# EAGLE library part LSM303D-LONG (library Triggy)
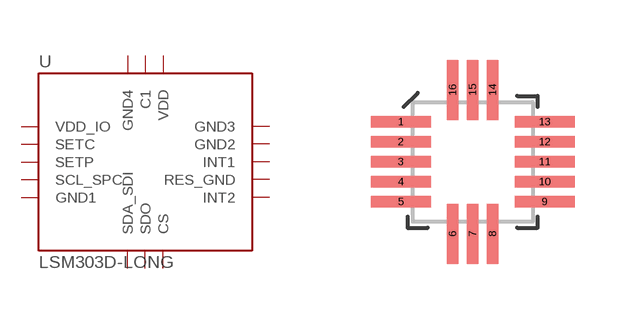
[diagram p1: symbol with the pads of LGA-16-LONG; footprint LGA-16-LONG]

Designator prefix -

## LSM303D-LONG  [LGA-16-LONG]
1  VDD_IO
2  SETC
3  SETP
4  SCL_SPC
5  GND1
6  SDA_SDI
7  SDO
8  CS
9  INT2
10  RES_GND
11  INT1
12  GND2
13  GND3
14  VDD
15  C1
16  GND4

## Footprint LGA-16-LONG (pad centres in mm)
smd 1.5 x 0.28: 1 -1.7,1.2; 2 -1.7,0.7; 3 -1.7,0.2; 4 -1.7,-0.3; 5 -1.7,-0.8; 9 1.9,-0.8; 10 1.9,-0.3; 11 1.9,0.2; 12 1.9,0.7; 13 1.9,1.2
smd 0.28 x 1.5: 6 -0.4,-1.6; 7 0.1,-1.6; 8 0.6,-1.6; 14 0.6,2; 15 0.1,2; 16 -0.4,2